# Altium integrated library GCM188R71H103KA37D.IntLib: 1 symbol
Pins are listed as number, name and electrical type; pins without a type are passive.

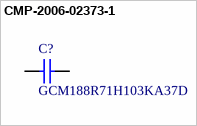
[diagram p0: symbol CMP-2006-02373-1]

## CMP-2006-02373-1
designator C?, comment GCM188R71H103KA37D
Manufacturer: Murata; Part Number: GCM188R71H103KA37D
footprint CAPC1608X90X35ML10T15 (Chip Capacitor, 2-Leads, Body 1.60x0.80mm, IPC Low Density)
footprint CAPC1608X90X35LL10T15 (Chip Capacitor, 2-Leads, Body 1.60x0.80mm, IPC High Density)
footprint CAPC1608X90X35NL10T15 (Chip Capacitor, 2-Leads, Body 1.60x0.80mm, IPC Medium Density)
pins: 1, 2
1 alternate drawing of the same symbol